# Altium schematic symbol library LED_RED.Schlib: 1 symbol
Pins are listed as number, name and electrical type; pins without a type are passive.

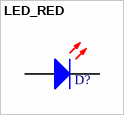
[diagram p0: symbol LED_RED]

## LED_RED
designator D?, comment RED  (value not drawn)
LED, RED
pins: 1 A, 2 C